# Altium footprint library KX003-1077.PcbLib: 2 footprints
Each footprint in its own frame and in the unit in brackets; x right, y up, seen from the top. Pads: shape width x height; smd on the part's side, far side on the other; paste and mask are expansions set on the pad; w line width, h text height; cw(c..) or ccw(c..) is an arc to the next point about the centre after c.
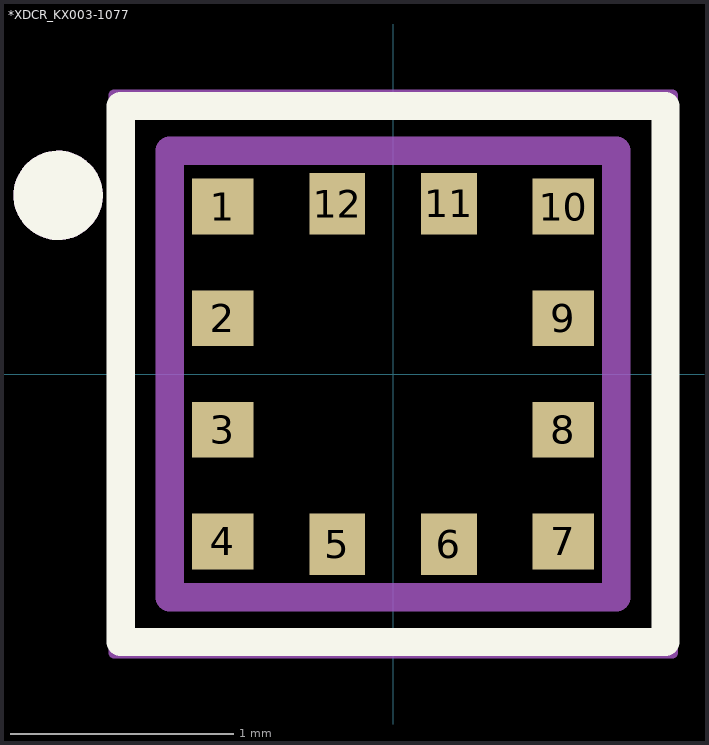
[diagram p0: the footprints below, top view; thin cyan lines are the x and y axes]

## *XDCR_KX003-1077 [mm]
pads (12):
  rect 0.275x0.25 smd: 1(-0.763,0.75) 2(-0.763,0.25) 3(-0.763,-0.25) 4(-0.763,-0.75) 7(0.763,-0.75) 8(0.763,-0.25) 9(0.763,0.25) 10(0.763,0.75)
  rect 0.25x0.275 smd: 5(-0.25,-0.763) 6(0.25,-0.763) 11(0.25,0.763) 12(-0.25,0.763)
Top Overlay:
  circle w0.2: c-1.5,0.8 r0.1
  lines w0.127: -1.22,-1.2 1.22,-1.2 1.22,1.2 -1.22,1.2 -1.22,-1.2
Top Solder:
  region: 0.562,0.938 0.964,0.938 0.964,0.562 0.562,0.562
  region: 0.562,-0.562 0.964,-0.562 0.964,-0.938 0.562,-0.938
  region: -0.964,-0.562 -0.562,-0.562 -0.562,-0.938 -0.964,-0.938
  region: -0.964,0.938 -0.562,0.938 -0.562,0.562 -0.964,0.562
  region: 0.562,-0.062 0.964,-0.062 0.964,-0.439 0.562,-0.439
  region: 0.562,0.439 0.964,0.439 0.964,0.062 0.562,0.062
  region: -0.964,-0.062 -0.562,-0.062 -0.562,-0.439 -0.964,-0.439
  region: -0.964,0.439 -0.562,0.439 -0.562,0.062 -0.964,0.062
  region: 0.062,0.964 0.439,0.964 0.439,0.562 0.062,0.562
  region: -0.439,0.964 -0.062,0.964 -0.062,0.562 -0.439,0.562
  region: 0.062,-0.562 0.439,-0.562 0.439,-0.964 0.062,-0.964
  region: -0.439,-0.562 -0.062,-0.562 -0.062,-0.964 -0.439,-0.964
Mechanical 4:
  circle w0.2: c-1.5,0.8 r0.1
  circle w0.2: c-1.5,0.8 r0.1
  lines w0.127: -1,-1 1,-1 ; -1,-1 -1,1 ; -1,-1 1,-1 ; -1,-1 -1,1 ; -1,1 1,1 ; -1,1 1,1 ; 1,-1 1,1 ; 1,-1 1,1
Mechanical 16:
  lines w0.05: -1.25,-1.25 1.25,-1.25 1.25,1.25 -1.25,1.25 -1.25,-1.25

## PCBComponent_1 [mm]